# Altium footprint library Devices.PcbLib: 19 footprints (part 2 of 2)
Each footprint in its own frame and in the unit in brackets; x right, y up, seen from the top. Pads: shape width x height; smd on the part's side, far side on the other; paste and mask are expansions set on the pad; w line width, h text height; cw(c..) or ccw(c..) is an arc to the next point about the centre after c.
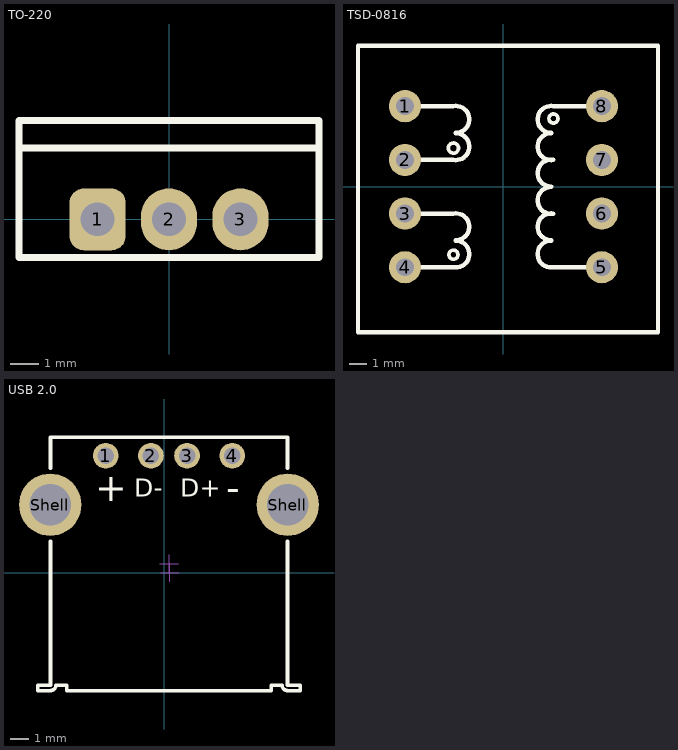
[diagram p1: the footprints below, top view; thin cyan lines are the x and y axes]

## TO-220 [mm]
pads (3):
  rrect50% 2x2.2 hole 1.2: 1(-2.54,0)
  oval 2x2.2 hole 1.2: 2(0,0) 3(2.54,0)
Top Overlay:
  lines w0.25: -5.335,-1.363 5.335,-1.363 5.335,3.467 ; -5.335,-1.308 -5.335,3.522 5.335,3.522 ; -5.207,2.54 5.207,2.54
3D body: height 0.25, standoff 0, extent 2.032,3.556 2.032,3.556
3D body "btb08-600b.stp": height 22.76, standoff -8.23, extent -5.335,-1.308 5.335,3.522

## TSD-0816 [mm]
pads (8):
  round 1.8 hole 1: 1(-5.5,4.5) 2(-5.5,1.5) 3(-5.5,-1.5) 4(-5.5,-4.5) 5(5.5,-4.5) 6(5.5,-1.5) 7(5.5,1.5) 8(5.5,4.5)
Top Overlay:
  circle w0.2: c-2.794,2.159 r0.284
  circle w0.2: c2.794,3.81 r0.254
  circle w0.2: c-2.794,-3.798 r0.254
  lines w0.25: -5.5,-4.5 -2.794,-4.5 ccw(c-2.658,-3.762) -2.658,-3.012 ; -5.5,-1.5 -2.794,-1.5 cw(c-2.658,-2.238) -2.658,-2.988 ; -5.5,1.5 -2.794,1.5 ccw(c-2.658,2.238) -2.658,2.988 ; -5.5,4.5 -2.794,4.5 cw(c-2.658,3.762) -2.658,3.012 ; 2.658,-3.012 ccw(c2.658,-3.762) 2.794,-4.5 5.5,-4.5 ; 2.658,-2.988 cw(c2.658,-2.238) 2.794,-1.5 cw(c2.658,-0.762) 2.658,-0.012 ; 2.658,0.012 cw(c2.658,0.762) 2.794,1.5 cw(c2.658,2.238) 2.658,2.988 ; 2.658,3.012 cw(c2.658,3.762) 2.794,4.5 5.5,4.5 ; -8.128,-8.128 -8.128,7.874 8.636,7.874 8.636,-8.128 -8.128,-8.128
3D body "TSD0816.step": height 14.83, standoff -3.47, extent -8.4,-8.128 8.4,7.872

## USB 2.0 [mm]
pads (6):
  round 1.42 hole 0.92: 1(-3.227,6.463) 2(-0.727,6.463) 3(1.273,6.463) 4(3.773,6.463)
  round 3.45 hole 2.3: Shell(-6.297,3.753) Shell(6.843,3.753)
Top Overlay:
  lines w0.2: -6.277,1.733 -6.277,-6.227 -6.977,-6.227 -6.977,-6.527 -6.287,-6.527 ccw(c-6.277,-6.227) -5.977,-6.227 -5.377,-6.227 -5.377,-6.527 5.923,-6.527 5.923,-6.227 6.523,-6.227 ccw(c6.823,-6.227) 6.833,-6.527 7.523,-6.527 7.523,-6.227 6.823,-6.227 6.823,1.733 ; -6.277,5.773 -6.277,7.473 6.823,7.473 6.823,5.773
  text "D+" at 0.889,4.191 h1
  text "D-" at -1.651,4.191 h1
  text "-" at 3.429,3.937 h1.52
  text "+" at -3.81,3.937 h1.52
Mechanical 2:
  lines w0.1: -5.377,-6.527 5.923,-6.527
Mechanical 15:
  lines w0.05: -0.227,0.473 0.773,0.473 ; -0.197,0.002 0.803,0.002 ; 0.273,-0.027 0.273,0.973 ; 0.303,-0.498 0.303,0.502
3D body "61400416021.stp": height 7.63, standoff -4.06, extent -7.871,-6.507 8.125,7.493